# Altium schematic symbol library DM27.SchLib: 1 symbol
Pins are listed as number, name and electrical type; pins without a type are passive.

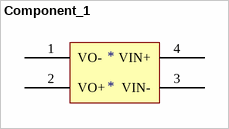
[diagram p0: symbol Component_1]

## Component_1
designator *
footprint DM28
pins: 1 VO-, 2 VO+, 3 VIN-, 4 VIN+